# Altium footprint library HT-GPS200.PcbLib: 1 footprints
Each footprint in its own frame and in the unit in brackets; x right, y up, seen from the top. Pads: shape width x height; smd on the part's side, far side on the other; paste and mask are expansions set on the pad; w line width, h text height; cw(c..) or ccw(c..) is an arc to the next point about the centre after c.
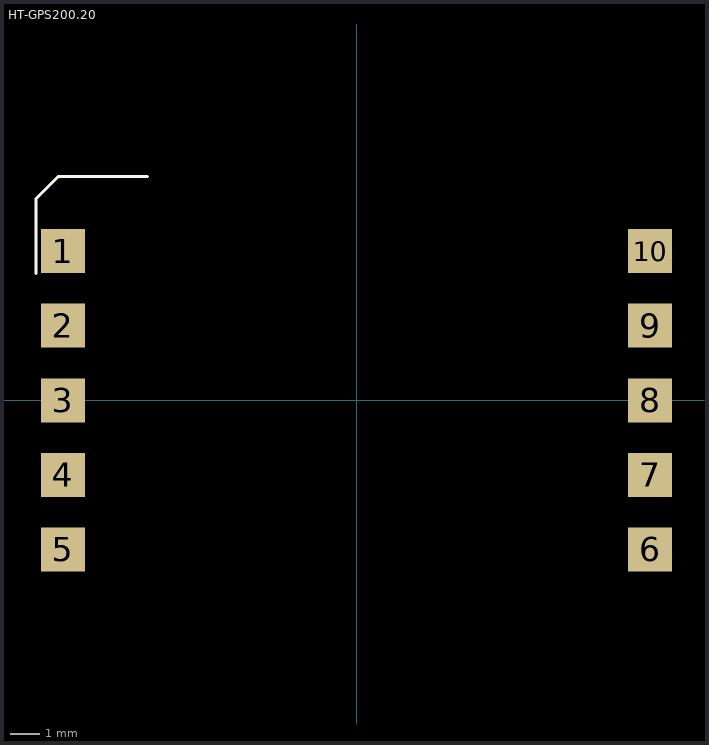
[diagram p0: the footprint, top view; thin cyan lines are the x and y axes]

## HT-GPS200.20 [mm] "HT-GPS200.20 GNSS Module"
pads (10):
  rect 1.5x1.5 smd: 1(-10,5.08) 2(-10,2.54) 3(-10,0) 4(-10,-2.54) 5(-10,-5.08) 6(10,-5.08) 7(10,-2.54) 8(10,0) 9(10,2.54) 10(10,5.08)
Top Overlay:
  lines w0.1: -10.922,4.318 -10.922,6.858 -10.16,7.62 -7.112,7.62
3D body "HT-GPS200.20FM_V1.3.step": height 3.1, standoff 0.02, extent -10,-7.075 10,7.425